# EAGLE library part AUDIO_JACK_TRS_0.25"_PTH_RA (library DD_SparkFun-Connectors)
Audio Jack, 1/4" TRS jack, horizontal, PTH, aka "Phono jack" Find the connector here: Audio Jack - 1/4" Stereo (right angle) <https://www.sparkfun.com/products/11144> (COM-11144) Datasheet <http://cdn.sparkfun.com/datasheets/Components/General/JP-611%20DD.jpg> Note, although the datasheet and physical part are slightly different, this footprint was proven to mate well on the Proto Pedal. This device is used on these SparkFun Products: SparkFun TRS Jack Breakout - 1/4" Stereo <https://www.sparkfun.com/products/13005> (BOB-13005 ) SparkFun Proto Pedal - sorry bad link - product comming soon! <https://www.sparkfun.com/products/13124> (PRT-13124)
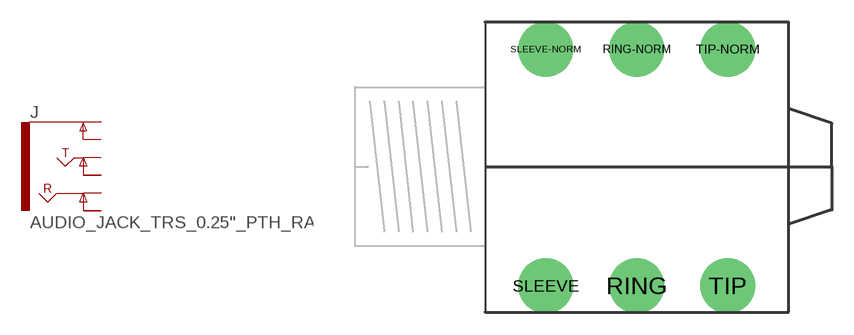
[diagram p61: symbol with the pads of AUDIO_JACK_0.25"_TRS_PTH_RA; footprint AUDIO_JACK_0.25"_TRS_PTH_RA]

Designator prefix J

## AUDIO_JACK_TRS_0.25"_PTH_RA (PROD_ID: CONN-12339; SF_ID: COM-11144)  [AUDIO_JACK_0.25"_TRS_PTH_RA]
RING  RING
RING-NORM  RING-NORM
SLEEVE  EARTH
SLEEVE-NORM  EARTH-NORM
TIP  TIP
TIP-NORM  TIP-NORM

## Footprint AUDIO_JACK_0.25"_TRS_PTH_RA (pad centres in mm)
Right Angle -1/4" Stereo Jack Specifications: Pin count: 6 Datasheet referenced for footprint <http://cdn.sparkfun.com/datasheets/Components/General/JP-611%20DD.jpg> Example device(s): AUDIO_JACK_TRS_0.25"_PTH_RA
drill 1.1 pad 3.81: RING 10.5,-8.22; RING-NORM 10.5,8.16; SLEEVE 4.2,-8.22; SLEEVE-NORM 4.2,8.16; TIP 16.8,-8.22; TIP-NORM 16.8,8.16